# EAGLE library part QS27-1 (library mynixies)
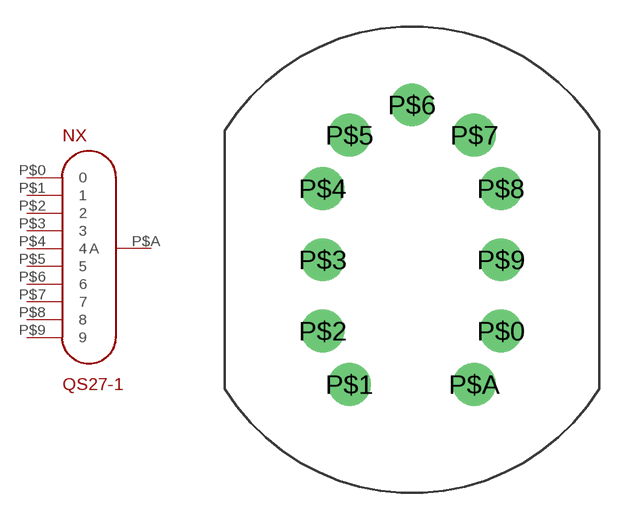
[diagram p28: symbol with the pads of QS27-1; footprint QS27-1]

Designator prefix NX

## QS27-1DSUB  [QS27-1]
P$0  0  pas
P$1  1  pas
P$2  2  pas
P$3  3  pas
P$4  4  pas
P$5  5  pas
P$6  6  pas
P$7  7  pas
P$8  8  pas
P$9  9  pas
P$A  A  pas

## Footprint QS27-1 (pad centres in mm)
drill 1.6: P$0 5,-4; P$1 -3.5,-7; P$2 -5,-4; P$3 -5,0; P$4 -5,4; P$5 -3.5,7; P$6 0,8.7; P$7 3.5,7; P$8 5,4; P$9 5,0; P$A 3.5,-7